# Altium integrated library DMP3098L-7.IntLib: 1 symbol
Pins are listed as number, name and electrical type; pins without a type are passive.

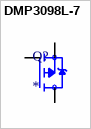
[diagram p0: symbol DMP3098L-7]

## DMP3098L-7
designator Q?
DMP3098L Series 30 V 70 mOhm P-Channel Enhancement Mode Mosfet - SOT-23-3; MP: DMP3098L7; MF: Diodes Incorporated; SnapEDA_Link: https://www.snapeda.com/parts/DMP3098L7/Diodes+Inc./view-part/?ref=snap; Availability: In Stock; Package: None; Purchase-URL: https://pricing.snapeda.com/search/part/DMP3098L7/?ref=eda; Check_prices: https://www.snapeda.com/parts/DMP3098L7/Diodes+Inc./view-part/?ref=eda; Value: *; Price: None
footprint SOT95P240X115-3N
pins: 1 G, 2 S, 3 D